# Altium integrated library Analog Devices Switches and Multiplexers Analog Switches.IntLib: 575 symbols (part 22 of 23)
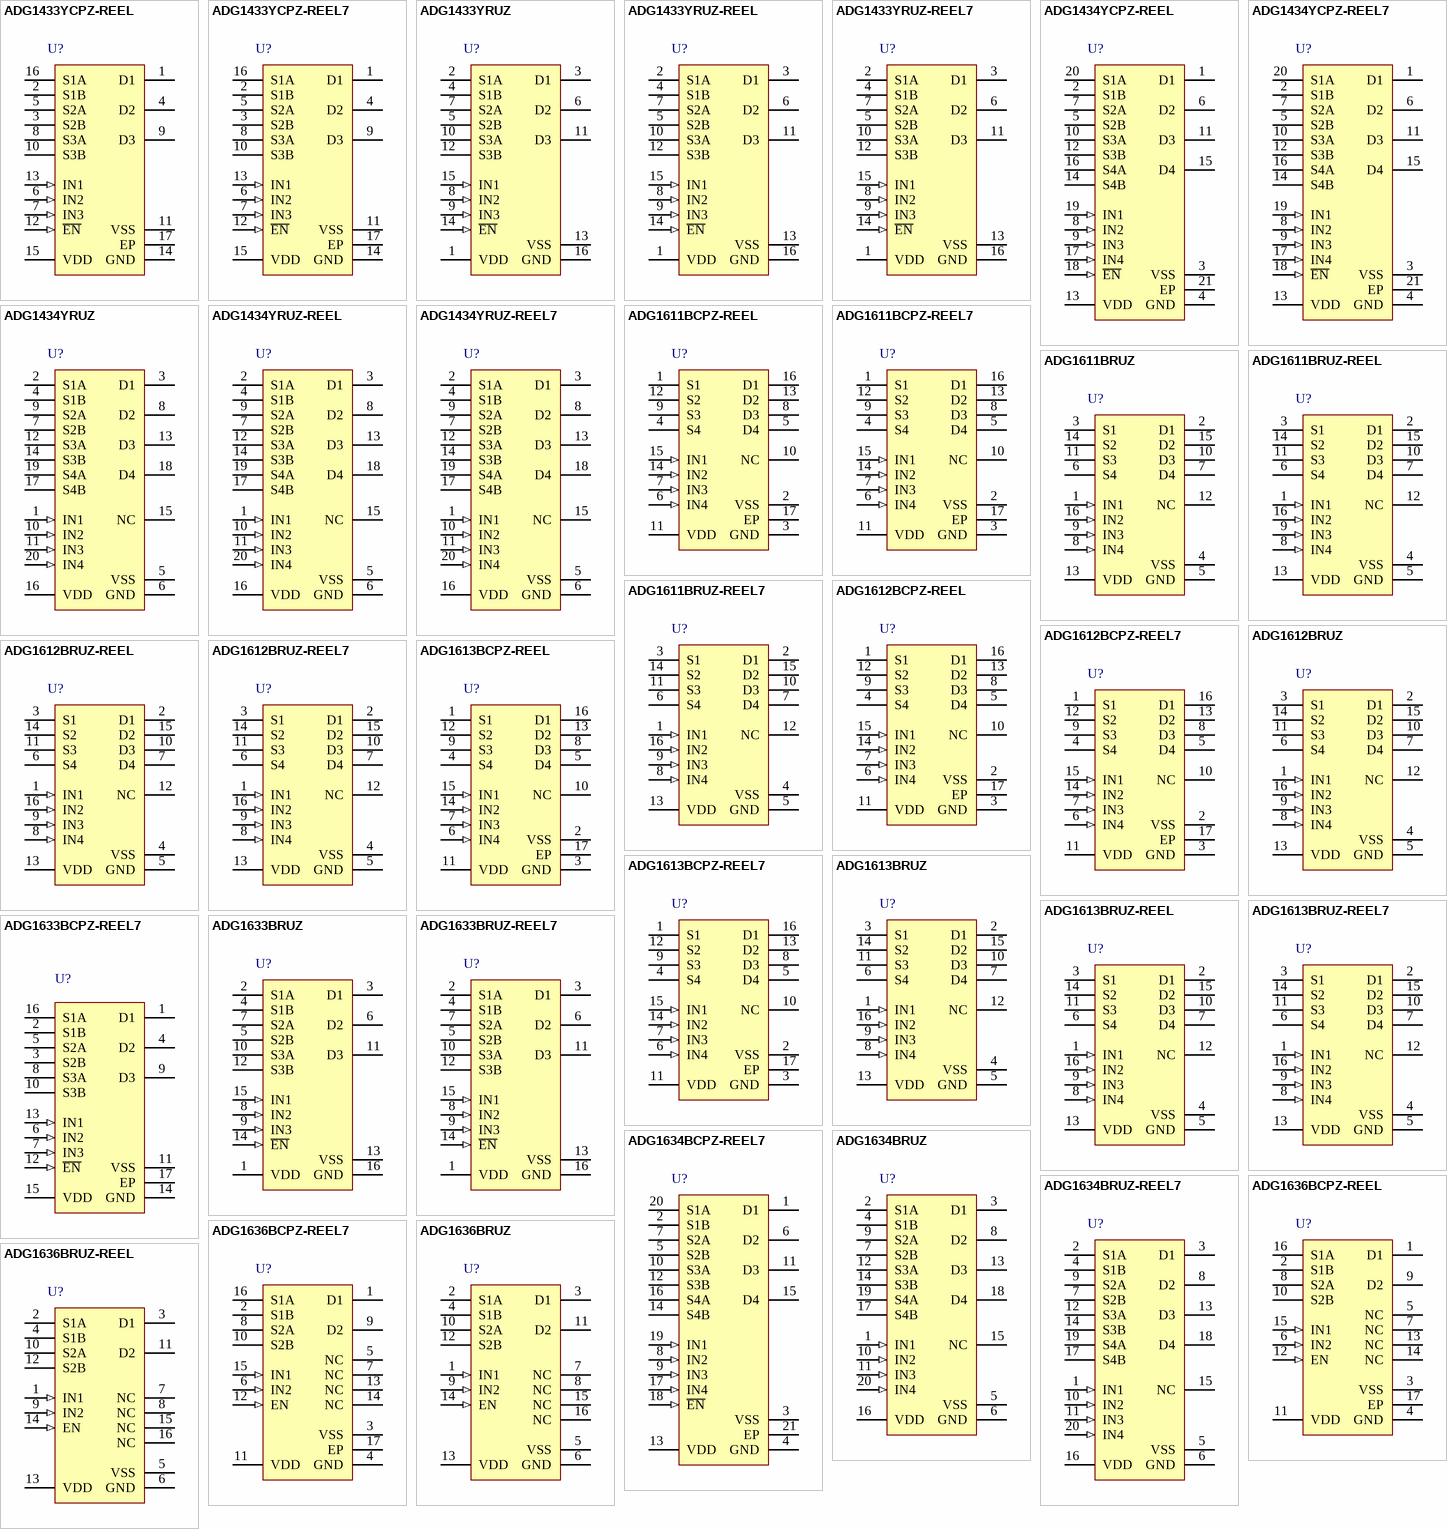
[diagram p36: symbols ADG1433YCPZ-REEL to ADG1636BRUZ-REEL]

## ADG1434YCPZ-REEL7
designator U?
4 Ohm Ron, Quad SPDT +/-15 V / +12 V / +/-5 V iCMOS Switch, 20-pin QFN (CP-20-4), Reel; Manufacturer: Analog Devices; PartNumber: ADG1434YCPZ-REEL7; Id, Is (ON): 50pA, 60pA, 40pA; Is OFF: 40pA, 40pA, 20pA; Power Dissipation: 6.6mW; Ron (ohms): 4; DatasheetVersion: Rev. C; PackageVersion: 012508-B; PackageReference: CP-20-4; PackageDescription: 20-Pin Lead Frame Chip Scale Package, Body 4 x 4 mm, Pitch 0.5 mm; Supplier 1: Digi-Key; Supplier Part Number 1: ADG1434YCPZ-REEL7TR-ND; Supplier 2: Digi-Key; Supplier Part Number 2: ADG1434YCPZ-REEL7CT-ND; Supplier 3: Digi-Key; Supplier Part Number 3: ADG1434YCPZ-REEL7DKR-ND; Supplier 4: Farnell; Supplier Part Number 4: 2074892; Supplier 5: Newark; Supplier Part Number 5: 77M9912; Supplier 6: Newark; Supplier Part Number 6: 67W3121; Supplier 7: Mouser; Supplier Part Number 7: 584-ADG1434YCPZ-R7; Configuration: SPDT; Packing: Reel; Mounting Technology: Surface Mount; Code_JEDEC: MO-220-VGGD-1; ComponentLink1Description: Manufacturer URL; ComponentLink1URL: http://www.analog.com/en/index.html; ComponentLink2Description: Datasheet; ComponentLink2URL: http://www.analog.com/static/imported-files/data_sheets/ADG1433_1434.pdf; ComponentLink3Description: Package Specification; ComponentLink3URL: http://www.analog.com/static/imported-files/packages/PKG_PDF/LFCSP(CP)/CP_20_4.pdf
footprint ADI-CP-20-4_N (QFN, 20-Leads, Body 4x4mm, Pitch 0.5mm, Thermal Pad 2.5x2.5mm, IPC Medium Density)
footprint ADI-CP-20-4_L (QFN, 20-Leads, Body 4x4mm, Pitch 0.5mm, Thermal Pad 2.5x2.5mm, IPC High Density)
footprint ADI-CP-20-4_M (QFN, 20-Leads, Body 4x4mm, Pitch 0.5mm, Thermal Pad 2.5x2.5mm, IPC Low Density)
pins: 1 D1 "Drain Terminal 1. Can be an input or an output.", 2 S1B "Source Terminal 1A. Can be an input or an output.", 3 VSS (power) "Most Negative Power Supply Potential. In single-supply applications, it can be connected to ground.", 4 GND (power) "Ground (0 V) Reference.", 5 S2B "Source Terminal 2B. Can be an input or an output.", 6 D2 "Drain Terminal 2. Can be an input or an output.", 7 S2A "Source Terminal 2A. Can be an input or an output.", 8 IN2 (in) "Logic Control Input 2.", 9 IN3 (in) "Logic Control Input 3.", 10 S3A "Source Terminal 3A. Can be an input or an output.", 11 D3 "Drain Terminal 3. Can be an input or an output.", 12 S3B "Source Terminal 3B. Can be an input or an output.", 13 VDD (power) "Most Positive Power Supply Potential.", 14 S4B "Source Terminal 4B. Can be an input or an output.", 15 D4 "Drain Terminal 4. Can be an input or an output.", 16 S4A "Source Terminal 4A. Can be an input or an output.", 17 IN4 (in) "Logic Control Input 4.", 18 ~{EN} (in) "Active Low Digital Input. When high, the device is disabled and all switches are off. When low, INx logic inputs determine the on switches.", 19 IN1 (in) "Logic Control Input 1.", 20 S1A "Source Terminal 1A. Can be an input or an output.", 21 EP (power) "The exposed pad is tied to the substrate, VSS."

## ADG1434YRUZ
designator U?
4 Ohm Ron, Quad SPDT +/-15 V / +12 V / +/-5 V iCMOS Switch, 20-pin SOP (RU-20), Tube; Manufacturer: Analog Devices; PartNumber: ADG1434YRUZ; Id, Is (ON): 50pA, 60pA, 40pA; Is OFF: 40pA, 40pA, 20pA; Power Dissipation: 6.6mW; Ron (ohms): 4; DatasheetVersion: Rev. C; PackageVersion: Jan-03; PackageReference: RU-20; PackageDescription: 20-Pin Thin Shrink Small Outline Package, Body 6.5 x 4.4 mm, Pitch 0.65 mm; Supplier 1: Digi-Key; Supplier Part Number 1: ADG1434YRUZ-ND; Supplier 2: Farnell; Supplier Part Number 2: 1438880; Supplier 3: Newark; Supplier Part Number 3: 28M3595; Supplier 4: Mouser; Supplier Part Number 4: 584-ADG1434YRUZ; Configuration: SPDT; Packing: Tube; Mounting Technology: Surface Mount; Code_JEDEC: MO-153AC; ComponentLink1Description: Manufacturer URL; ComponentLink1URL: http://www.analog.com/en/index.html; ComponentLink2Description: Datasheet; ComponentLink2URL: http://www.analog.com/static/imported-files/data_sheets/ADG1433_1434.pdf; ComponentLink3Description: Package Specification; ComponentLink3URL: http://www.analog.com/static/imported-files/packages/364515793657813558433715854054607941441RU20.pdf
footprint ADI-RU-20_N (SOP, 20-Leads, Body 6.5x4.4mm, Pitch 0.65mm, IPC Medium Density)
footprint ADI-RU-20_L (SOP, 20-Leads, Body 6.5x4.4mm, Pitch 0.65mm, IPC High Density)
footprint ADI-RU-20_M (SOP, 20-Leads, Body 6.5x4.4mm, Pitch 0.65mm, IPC Low Density)
pins: 1 IN1 (in) "Logic Control Input 1.", 2 S1A "Source Terminal 1A. Can be an input or an output.", 3 D1 "Drain Terminal 1. Can be an input or an output.", 4 S1B "Source Terminal 1B. Can be an input or an output.", 5 VSS (power) "Most Negative Power Supply Potential. In single-supply applications, it can be connected to ground.", 6 GND (power) "Ground (0 V) Reference.", 7 S2B "Source Terminal 2B. Can be an input or an output.", 8 D2 "Drain Terminal 2. Can be an input or an output.", 9 S2A "Source Terminal 2A. Can be an input or an output.", 10 IN2 (in) "Logic Control Input 2.", 11 IN3 (in) "Logic Control Input 3.", 12 S3A "Source Terminal 3A. Can be an input or an output.", 13 D3 "Drain Terminal 3. Can be an input or an output.", 14 S3B "Source Terminal 3B. Can be an input or an output.", 15 NC "No Connect.", 16 VDD (power) "Most Positive Power Supply Potential.", 17 S4B "Source Terminal 4B. Can be an input or an output.", 18 D4 "Drain Terminal 4. Can be an input or an output.", 19 S4A "Source Terminal 4A. Can be an input or an output.", 20 IN4 (in) "Logic Control Input 4."

## ADG1434YRUZ-REEL
designator U?
4 Ohm Ron, Quad SPDT +/-15 V / +12 V / +/-5 V iCMOS Switch, 20-pin SOP (RU-20), Reel; Manufacturer: Analog Devices; PartNumber: ADG1434YRUZ-REEL; Id, Is (ON): 50pA, 60pA, 40pA; Is OFF: 40pA, 40pA, 20pA; Power Dissipation: 6.6mW; Ron (ohms): 4; DatasheetVersion: Rev. C; PackageVersion: Jan-03; PackageReference: RU-20; PackageDescription: 20-Pin Thin Shrink Small Outline Package, Body 6.5 x 4.4 mm, Pitch 0.65 mm; Supplier 1: Digi-Key; Supplier Part Number 1: ADG1434YRUZ-REEL-ND; Supplier 2: Mouser; Supplier Part Number 2: 584-ADG1434YRUZ-R; Configuration: SPDT; Packing: Reel; Mounting Technology: Surface Mount; Code_JEDEC: MO-153AC; ComponentLink1Description: Manufacturer URL; ComponentLink1URL: http://www.analog.com/en/index.html; ComponentLink2Description: Datasheet; ComponentLink2URL: http://www.analog.com/static/imported-files/data_sheets/ADG1433_1434.pdf; ComponentLink3Description: Package Specification; ComponentLink3URL: http://www.analog.com/static/imported-files/packages/364515793657813558433715854054607941441RU20.pdf
footprint ADI-RU-20_N (SOP, 20-Leads, Body 6.5x4.4mm, Pitch 0.65mm, IPC Medium Density)
footprint ADI-RU-20_L (SOP, 20-Leads, Body 6.5x4.4mm, Pitch 0.65mm, IPC High Density)
footprint ADI-RU-20_M (SOP, 20-Leads, Body 6.5x4.4mm, Pitch 0.65mm, IPC Low Density)
pins: 1 IN1 (in) "Logic Control Input 1.", 2 S1A "Source Terminal 1A. Can be an input or an output.", 3 D1 "Drain Terminal 1. Can be an input or an output.", 4 S1B "Source Terminal 1B. Can be an input or an output.", 5 VSS (power) "Most Negative Power Supply Potential. In single-supply applications, it can be connected to ground.", 6 GND (power) "Ground (0 V) Reference.", 7 S2B "Source Terminal 2B. Can be an input or an output.", 8 D2 "Drain Terminal 2. Can be an input or an output.", 9 S2A "Source Terminal 2A. Can be an input or an output.", 10 IN2 (in) "Logic Control Input 2.", 11 IN3 (in) "Logic Control Input 3.", 12 S3A "Source Terminal 3A. Can be an input or an output.", 13 D3 "Drain Terminal 3. Can be an input or an output.", 14 S3B "Source Terminal 3B. Can be an input or an output.", 15 NC "No Connect.", 16 VDD (power) "Most Positive Power Supply Potential.", 17 S4B "Source Terminal 4B. Can be an input or an output.", 18 D4 "Drain Terminal 4. Can be an input or an output.", 19 S4A "Source Terminal 4A. Can be an input or an output.", 20 IN4 (in) "Logic Control Input 4."

## ADG1434YRUZ-REEL7
designator U?
4 Ohm Ron, Quad SPDT +/-15 V / +12 V / +/-5 V iCMOS Switch, 20-pin SOP (RU-20), Reel; Manufacturer: Analog Devices; PartNumber: ADG1434YRUZ-REEL7; Id, Is (ON): 50pA, 60pA, 40pA; Is OFF: 40pA, 40pA, 20pA; Power Dissipation: 6.6mW; Ron (ohms): 4; DatasheetVersion: Rev. C; PackageVersion: Jan-03; PackageReference: RU-20; PackageDescription: 20-Pin Thin Shrink Small Outline Package, Body 6.5 x 4.4 mm, Pitch 0.65 mm; Supplier 1: Digi-Key; Supplier Part Number 1: ADG1434YRUZ-REEL7TR-ND; Supplier 2: Digi-Key; Supplier Part Number 2: ADG1434YRUZ-REEL7CT-ND; Supplier 3: Digi-Key; Supplier Part Number 3: ADG1434YRUZ-REEL7DKR-ND; Supplier 4: Newark; Supplier Part Number 4: 28M3597; Supplier 5: Mouser; Supplier Part Number 5: 584-ADG1434YRUZ-R7; Configuration: SPDT; Packing: Reel; Mounting Technology: Surface Mount; Code_JEDEC: MO-153AC; ComponentLink1Description: Manufacturer URL; ComponentLink1URL: http://www.analog.com/en/index.html; ComponentLink2Description: Datasheet; ComponentLink2URL: http://www.analog.com/static/imported-files/data_sheets/ADG1433_1434.pdf; ComponentLink3Description: Package Specification; ComponentLink3URL: http://www.analog.com/static/imported-files/packages/364515793657813558433715854054607941441RU20.pdf
footprint ADI-RU-20_N (SOP, 20-Leads, Body 6.5x4.4mm, Pitch 0.65mm, IPC Medium Density)
footprint ADI-RU-20_L (SOP, 20-Leads, Body 6.5x4.4mm, Pitch 0.65mm, IPC High Density)
footprint ADI-RU-20_M (SOP, 20-Leads, Body 6.5x4.4mm, Pitch 0.65mm, IPC Low Density)
pins: 1 IN1 (in) "Logic Control Input 1.", 2 S1A "Source Terminal 1A. Can be an input or an output.", 3 D1 "Drain Terminal 1. Can be an input or an output.", 4 S1B "Source Terminal 1B. Can be an input or an output.", 5 VSS (power) "Most Negative Power Supply Potential. In single-supply applications, it can be connected to ground.", 6 GND (power) "Ground (0 V) Reference.", 7 S2B "Source Terminal 2B. Can be an input or an output.", 8 D2 "Drain Terminal 2. Can be an input or an output.", 9 S2A "Source Terminal 2A. Can be an input or an output.", 10 IN2 (in) "Logic Control Input 2.", 11 IN3 (in) "Logic Control Input 3.", 12 S3A "Source Terminal 3A. Can be an input or an output.", 13 D3 "Drain Terminal 3. Can be an input or an output.", 14 S3B "Source Terminal 3B. Can be an input or an output.", 15 NC "No Connect.", 16 VDD (power) "Most Positive Power Supply Potential.", 17 S4B "Source Terminal 4B. Can be an input or an output.", 18 D4 "Drain Terminal 4. Can be an input or an output.", 19 S4A "Source Terminal 4A. Can be an input or an output.", 20 IN4 (in) "Logic Control Input 4."

## ADG1611BCPZ-REEL
designator U?
1 Ohm Typical Ron, +/-5 V, +12 V, +5 V, and +3.3 V Quad SPST Switches, -40 to 125 degC, 16-pin QFN (CP-16-13), Reel; Manufacturer: Analog Devices; PartNumber: ADG1611BCPZ-REEL; # Sw Functions: 4; Id, Is (ON): 200pA, 200pA, 150pA, 100pA; Is OFF: 100pA, 100pA, 50pA, 20pA; Power Dissipation: 5.8mW; Ron (ohms): 1; DatasheetVersion: Rev. B; PackageVersion: 031006-A, 06/2006; PackageReference: CP-16-13; PackageDescription: 16-Pin Lead Frame Chip Scale Package, Body 4 x 4 mm, Pitch 0.65 mm; Supplier 1: Digi-Key; Supplier Part Number 1: ADG1611BCPZ-REEL-ND; Supplier 2: Mouser; Supplier Part Number 2: 584-ADG1611BCPZ-R; Configuration: SPST; Packing: Reel; Mounting Technology: Surface Mount; Code_JEDEC: MO-220-VGGC.; ComponentLink1Description: Manufacturer URL; ComponentLink1URL: http://www.analog.com/en/index.html; ComponentLink2Description: Datasheet; ComponentLink2URL: http://www.analog.com/static/imported-files/data_sheets/ADG1611_1612_1613.pdf; ComponentLink3Description: Package Specification; ComponentLink3URL: http://www.analog.com/static/imported-files/packages/PKG_PDF/LFCSP(CP)/CP-16/CP_16_13.pdf
footprint ADI-CP-16-13_N (QFN, 16-Leads, Body 4x4mm, Pitch 0.65mm, Thermal Pad 2.5x2.5mm, IPC Medium Density)
footprint ADI-CP-16-13_L (QFN, 16-Leads, Body 4x4mm, Pitch 0.65mm, Thermal Pad 2.5x2.5mm, IPC High Density)
footprint ADI-CP-16-13_M (QFN, 16-Leads, Body 4x4mm, Pitch 0.65mm, Thermal Pad 2.5x2.5mm, IPC Low Density)
pins: 1 S1 "Source Terminal. This pin can be an input or output.", 2 VSS (power) "Most Negative Power Supply Potential.", 3 GND (power) "Ground (0 V) Reference.", 4 S4 "Source Terminal. This pin can be an input or output.", 5 D4 "Drain Terminal. This pin can be an input or output.", 6 IN4 (in) "Logic Control Input.", 7 IN3 (in) "Logic Control Input.", 8 D3 "Drain Terminal. This pin can be an input or output", 9 S3 "Source Terminal. This pin can be an input or output.", 10 NC "No Connection.", 11 VDD (power) "Most Positive Power Supply Potential.", 12 S2 "Source Terminal. This pin can be an input or output.", 13 D2 "Drain Terminal. This pin can be an input or output.", 14 IN2 (in) "Logic Control Input.", 15 IN1 (in) "Logic Control Input.", 16 D1 "Drain Terminal. This pin can be an input or output.", 17 EP (power) "Exposed Pad. Tied to substrate, VSS."

## ADG1611BCPZ-REEL7
designator U?
1 Ohm Typical Ron, +/-5 V, +12 V, +5 V, and +3.3 V Quad SPST Switches, -40 to 125 degC, 16-pin QFN (CP-16-13), Reel; Manufacturer: Analog Devices; PartNumber: ADG1611BCPZ-REEL7; # Sw Functions: 4; Id, Is (ON): 200pA, 200pA, 150pA, 100pA; Is OFF: 100pA, 100pA, 50pA, 20pA; Power Dissipation: 5.8mW; Ron (ohms): 1; DatasheetVersion: Rev. B; PackageVersion: 031006-A, 06/2006; PackageReference: CP-16-13; PackageDescription: 16-Pin Lead Frame Chip Scale Package, Body 4 x 4 mm, Pitch 0.65 mm; Supplier 1: Digi-Key; Supplier Part Number 1: ADG1611BCPZ-REEL7TR-ND; Supplier 2: Digi-Key; Supplier Part Number 2: ADG1611BCPZ-REEL7CT-ND; Supplier 3: Digi-Key; Supplier Part Number 3: ADG1611BCPZ-REEL7DKR-ND; Supplier 4: Newark; Supplier Part Number 4: 71P7806; Supplier 5: Mouser; Supplier Part Number 5: 584-ADG1611BCPZ-R7; Configuration: SPST; Packing: Reel; Mounting Technology: Surface Mount; Code_JEDEC: MO-220-VGGC.; ComponentLink1Description: Manufacturer URL; ComponentLink1URL: http://www.analog.com/en/index.html; ComponentLink2Description: Datasheet; ComponentLink2URL: http://www.analog.com/static/imported-files/data_sheets/ADG1611_1612_1613.pdf; ComponentLink3Description: Package Specification; ComponentLink3URL: http://www.analog.com/static/imported-files/packages/PKG_PDF/LFCSP(CP)/CP-16/CP_16_13.pdf
footprint ADI-CP-16-13_N (QFN, 16-Leads, Body 4x4mm, Pitch 0.65mm, Thermal Pad 2.5x2.5mm, IPC Medium Density)
footprint ADI-CP-16-13_L (QFN, 16-Leads, Body 4x4mm, Pitch 0.65mm, Thermal Pad 2.5x2.5mm, IPC High Density)
footprint ADI-CP-16-13_M (QFN, 16-Leads, Body 4x4mm, Pitch 0.65mm, Thermal Pad 2.5x2.5mm, IPC Low Density)
pins: 1 S1 "Source Terminal. This pin can be an input or output.", 2 VSS (power) "Most Negative Power Supply Potential.", 3 GND (power) "Ground (0 V) Reference.", 4 S4 "Source Terminal. This pin can be an input or output.", 5 D4 "Drain Terminal. This pin can be an input or output.", 6 IN4 (in) "Logic Control Input.", 7 IN3 (in) "Logic Control Input.", 8 D3 "Drain Terminal. This pin can be an input or output", 9 S3 "Source Terminal. This pin can be an input or output.", 10 NC "No Connection.", 11 VDD (power) "Most Positive Power Supply Potential.", 12 S2 "Source Terminal. This pin can be an input or output.", 13 D2 "Drain Terminal. This pin can be an input or output.", 14 IN2 (in) "Logic Control Input.", 15 IN1 (in) "Logic Control Input.", 16 D1 "Drain Terminal. This pin can be an input or output.", 17 EP (power) "Exposed Pad. Tied to substrate, VSS."

## ADG1611BRUZ
designator U?
1 Ohm Typical Ron, +/-5 V, +12 V, +5 V, and +3.3 V Quad SPST Switches, -40 to 125 degC, 16-pin SOP (RU-16), Tube; Manufacturer: Analog Devices; PartNumber: ADG1611BRUZ; # Sw Functions: 4; Id, Is (ON): 200pA, 200pA, 150pA, 100pA; Is OFF: 100pA, 100pA, 50pA, 20pA; Power Dissipation: 5.8mW; Ron (ohms): 1; DatasheetVersion: Rev. B; PackageVersion: Nov-02; PackageReference: RU-16; PackageDescription: 16-Pin Thin Shrink Small Outline Package, Body 5 x 4.4 mm, Pitch 0.65 mm; Supplier 1: Digi-Key; Supplier Part Number 1: ADG1611BRUZ-ND; Supplier 2: Farnell; Supplier Part Number 2: 2102526; Supplier 3: Farnell; Supplier Part Number 3: 1702365; Supplier 4: Newark; Supplier Part Number 4: 71P7807; Supplier 5: Mouser; Supplier Part Number 5: 584-ADG1611BRUZ; Configuration: SPST; Packing: Tube; Mounting Technology: Surface Mount; Code_JEDEC: MO-153AB; ComponentLink1Description: Manufacturer URL; ComponentLink1URL: http://www.analog.com/en/index.html; ComponentLink2Description: Datasheet; ComponentLink2URL: http://www.analog.com/static/imported-files/data_sheets/ADG1611_1612_1613.pdf; ComponentLink3Description: Package Specification; ComponentLink3URL: http:/www.analog.com/static/imported-files/packages/36244347913743854010197452789RU16.pdf
footprint ADI-RU-16_N (SOP, 16-Leads, Body 5x4.4mm, Pitch 0.65mm, IPC Medium Density)
footprint ADI-RU-16_L (SOP, 16-Leads, Body 5x4.4mm, Pitch 0.65mm, IPC High Density)
footprint ADI-RU-16_M (SOP, 16-Leads, Body 5x4.4mm, Pitch 0.65mm, IPC Low Density)
pins: 1 IN1 (in) "Logic Control Input.", 2 D1 "Drain Terminal. This pin can be an input or output.", 3 S1 "Source Terminal. This pin can be an input or output.", 4 VSS (power) "Most Negative Power Supply Potential.", 5 GND (power) "Ground (0 V) Reference.", 6 S4 "Source Terminal. This pin can be an input or output.", 7 D4 "Drain Terminal. This pin can be an input or output.", 8 IN4 (in) "Logic Control Input.", 9 IN3 (in) "Logic Control Input.", 10 D3 "Drain Terminal. This pin can be an input or output.", 11 S3 "Source Terminal. This pin can be an input or output.", 12 NC "No Connection.", 13 VDD (power) "Most Positive Power Supply Potential.", 14 S2 "Source Terminal. This pin can be an input or output.", 15 D2 "Drain Terminal. This pin can be an input or output.", 16 IN2 (in) "Logic Control Input."

## ADG1611BRUZ-REEL
designator U?
1 Ohm Typical Ron, +/-5 V, +12 V, +5 V, and +3.3 V Quad SPST Switches, -40 to 125 degC, 16-pin SOP (RU-16), Reel; Manufacturer: Analog Devices; PartNumber: ADG1611BRUZ-REEL; # Sw Functions: 4; Id, Is (ON): 200pA, 200pA, 150pA, 100pA; Is OFF: 100pA, 100pA, 50pA, 20pA; Power Dissipation: 5.8mW; Ron (ohms): 1; DatasheetVersion: Rev. B; PackageVersion: Nov-02; PackageReference: RU-16; PackageDescription: 16-Pin Thin Shrink Small Outline Package, Body 5 x 4.4 mm, Pitch 0.65 mm; Supplier 1: Digi-Key; Supplier Part Number 1: ADG1611BRUZ-REEL-ND; Supplier 2: Mouser; Supplier Part Number 2: 584-ADG1611BRUZ-R; Configuration: SPST; Packing: Reel; Mounting Technology: Surface Mount; Code_JEDEC: MO-153AB; ComponentLink1Description: Manufacturer URL; ComponentLink1URL: http://www.analog.com/en/index.html; ComponentLink2Description: Datasheet; ComponentLink2URL: http://www.analog.com/static/imported-files/data_sheets/ADG1611_1612_1613.pdf; ComponentLink3Description: Package Specification; ComponentLink3URL: http:/www.analog.com/static/imported-files/packages/36244347913743854010197452789RU16.pdf
footprint ADI-RU-16_N (SOP, 16-Leads, Body 5x4.4mm, Pitch 0.65mm, IPC Medium Density)
footprint ADI-RU-16_L (SOP, 16-Leads, Body 5x4.4mm, Pitch 0.65mm, IPC High Density)
footprint ADI-RU-16_M (SOP, 16-Leads, Body 5x4.4mm, Pitch 0.65mm, IPC Low Density)
pins: 1 IN1 (in) "Logic Control Input.", 2 D1 "Drain Terminal. This pin can be an input or output.", 3 S1 "Source Terminal. This pin can be an input or output.", 4 VSS (power) "Most Negative Power Supply Potential.", 5 GND (power) "Ground (0 V) Reference.", 6 S4 "Source Terminal. This pin can be an input or output.", 7 D4 "Drain Terminal. This pin can be an input or output.", 8 IN4 (in) "Logic Control Input.", 9 IN3 (in) "Logic Control Input.", 10 D3 "Drain Terminal. This pin can be an input or output.", 11 S3 "Source Terminal. This pin can be an input or output.", 12 NC "No Connection.", 13 VDD (power) "Most Positive Power Supply Potential.", 14 S2 "Source Terminal. This pin can be an input or output.", 15 D2 "Drain Terminal. This pin can be an input or output.", 16 IN2 (in) "Logic Control Input."

## ADG1611BRUZ-REEL7
designator U?
1 Ohm Typical Ron, +/-5 V, +12 V, +5 V, and +3.3 V Quad SPST Switches, -40 to 125 degC, 16-pin SOP (RU-16), Reel; Manufacturer: Analog Devices; PartNumber: ADG1611BRUZ-REEL7; # Sw Functions: 4; Id, Is (ON): 200pA, 200pA, 150pA, 100pA; Is OFF: 100pA, 100pA, 50pA, 20pA; Power Dissipation: 5.8mW; Ron (ohms): 1; DatasheetVersion: Rev. B; PackageVersion: Nov-02; PackageReference: RU-16; PackageDescription: 16-Pin Thin Shrink Small Outline Package, Body 5 x 4.4 mm, Pitch 0.65 mm; Supplier 1: Digi-Key; Supplier Part Number 1: ADG1611BRUZ-REEL7-ND; Supplier 2: Newark; Supplier Part Number 2: 71P7809; Supplier 3: Mouser; Supplier Part Number 3: 584-ADG1611BRUZ-R7; Configuration: SPST; Packing: Reel; Mounting Technology: Surface Mount; Code_JEDEC: MO-153AB; ComponentLink1Description: Manufacturer URL; ComponentLink1URL: http://www.analog.com/en/index.html; ComponentLink2Description: Datasheet; ComponentLink2URL: http://www.analog.com/static/imported-files/data_sheets/ADG1611_1612_1613.pdf; ComponentLink3Description: Package Specification; ComponentLink3URL: http:/www.analog.com/static/imported-files/packages/36244347913743854010197452789RU16.pdf
footprint ADI-RU-16_N (SOP, 16-Leads, Body 5x4.4mm, Pitch 0.65mm, IPC Medium Density)
footprint ADI-RU-16_L (SOP, 16-Leads, Body 5x4.4mm, Pitch 0.65mm, IPC High Density)
footprint ADI-RU-16_M (SOP, 16-Leads, Body 5x4.4mm, Pitch 0.65mm, IPC Low Density)
pins: 1 IN1 (in) "Logic Control Input.", 2 D1 "Drain Terminal. This pin can be an input or output.", 3 S1 "Source Terminal. This pin can be an input or output.", 4 VSS (power) "Most Negative Power Supply Potential.", 5 GND (power) "Ground (0 V) Reference.", 6 S4 "Source Terminal. This pin can be an input or output.", 7 D4 "Drain Terminal. This pin can be an input or output.", 8 IN4 (in) "Logic Control Input.", 9 IN3 (in) "Logic Control Input.", 10 D3 "Drain Terminal. This pin can be an input or output.", 11 S3 "Source Terminal. This pin can be an input or output.", 12 NC "No Connection.", 13 VDD (power) "Most Positive Power Supply Potential.", 14 S2 "Source Terminal. This pin can be an input or output.", 15 D2 "Drain Terminal. This pin can be an input or output.", 16 IN2 (in) "Logic Control Input."

## ADG1612BCPZ-REEL
designator U?
1 Ohm Typical Ron, +/-5 V, +12 V, +5 V, and +3.3 V Quad SPST Switches, -40 to 125 degC, 16-pin QFN (CP-16-13), Reel; Manufacturer: Analog Devices; PartNumber: ADG1612BCPZ-REEL; # Sw Functions: 4; Id, Is (ON): 200pA, 200pA, 150pA, 100pA; Is OFF: 100pA, 100pA, 50pA, 20pA; Power Dissipation: 5.8mW; Ron (ohms): 1; DatasheetVersion: Rev. B; PackageVersion: 031006-A, 06/2006; PackageReference: CP-16-13; PackageDescription: 16-Pin Lead Frame Chip Scale Package, Body 4 x 4 mm, Pitch 0.65 mm; Supplier 1: Digi-Key; Supplier Part Number 1: ADG1612BCPZ-REEL-ND; Supplier 2: Mouser; Supplier Part Number 2: 584-ADG1612BCPZ-R; Configuration: SPST; Packing: Reel; Mounting Technology: Surface Mount; Code_JEDEC: MO-220-VGGC.; ComponentLink1Description: Manufacturer URL; ComponentLink1URL: http://www.analog.com/en/index.html; ComponentLink2Description: Datasheet; ComponentLink2URL: http://www.analog.com/static/imported-files/data_sheets/ADG1611_1612_1613.pdf; ComponentLink3Description: Package Specification; ComponentLink3URL: http://www.analog.com/static/imported-files/packages/PKG_PDF/LFCSP(CP)/CP-16/CP_16_13.pdf
footprint ADI-CP-16-13_N (QFN, 16-Leads, Body 4x4mm, Pitch 0.65mm, Thermal Pad 2.5x2.5mm, IPC Medium Density)
footprint ADI-CP-16-13_L (QFN, 16-Leads, Body 4x4mm, Pitch 0.65mm, Thermal Pad 2.5x2.5mm, IPC High Density)
footprint ADI-CP-16-13_M (QFN, 16-Leads, Body 4x4mm, Pitch 0.65mm, Thermal Pad 2.5x2.5mm, IPC Low Density)
pins: 1 S1 "Source Terminal. This pin can be an input or output.", 2 VSS (power) "Most Negative Power Supply Potential.", 3 GND (power) "Ground (0 V) Reference.", 4 S4 "Source Terminal. This pin can be an input or output.", 5 D4 "Drain Terminal. This pin can be an input or output.", 6 IN4 (in) "Logic Control Input.", 7 IN3 (in) "Logic Control Input.", 8 D3 "Drain Terminal. This pin can be an input or output.", 9 S3 "Source Terminal. This pin can be an input or output.", 10 NC "No Connection.", 11 VDD (power) "Most Positive Power Supply Potential.", 12 S2 "Source Terminal. This pin can be an input or output.", 13 D2 "Drain Terminal. This pin can be an input or output.", 14 IN2 (in) "Logic Control Input.", 15 IN1 (in) "Logic Control Input.", 16 D1 "Drain Terminal. This pin can be an input or output.", 17 EP (power) "Exposed Pad. Tied to substrate, VSS."

## ADG1612BCPZ-REEL7
designator U?
1 Ohm Typical Ron, +/-5 V, +12 V, +5 V, and +3.3 V Quad SPST Switches, -40 to 125 degC, 16-pin QFN (CP-16-13), Reel; Manufacturer: Analog Devices; PartNumber: ADG1612BCPZ-REEL7; # Sw Functions: 4; Id, Is (ON): 200pA, 200pA, 150pA, 100pA; Is OFF: 100pA, 100pA, 50pA, 20pA; Power Dissipation: 5.8mW; Ron (ohms): 1; DatasheetVersion: Rev. B; PackageVersion: 031006-A, 06/2006; PackageReference: CP-16-13; PackageDescription: 16-Pin Lead Frame Chip Scale Package, Body 4 x 4 mm, Pitch 0.65 mm; Supplier 1: Digi-Key; Supplier Part Number 1: ADG1612BCPZ-REEL7TR-ND; Supplier 2: Digi-Key; Supplier Part Number 2: ADG1612BCPZ-REEL7CT-ND; Supplier 3: Digi-Key; Supplier Part Number 3: ADG1612BCPZ-REEL7DKR-ND; Supplier 4: Farnell; Supplier Part Number 4: 2312942; Supplier 5: Newark; Supplier Part Number 5: 71P7811; Supplier 6: Newark; Supplier Part Number 6: 67W3124; Supplier 7: Mouser; Supplier Part Number 7: 584-ADG1612BCPZ-R7; Configuration: SPST; Packing: Reel; Mounting Technology: Surface Mount; Code_JEDEC: MO-220-VGGC.; ComponentLink1Description: Manufacturer URL; ComponentLink1URL: http://www.analog.com/en/index.html; ComponentLink2Description: Datasheet; ComponentLink2URL: http://www.analog.com/static/imported-files/data_sheets/ADG1611_1612_1613.pdf; ComponentLink3Description: Package Specification; ComponentLink3URL: http://www.analog.com/static/imported-files/packages/PKG_PDF/LFCSP(CP)/CP-16/CP_16_13.pdf
footprint ADI-CP-16-13_N (QFN, 16-Leads, Body 4x4mm, Pitch 0.65mm, Thermal Pad 2.5x2.5mm, IPC Medium Density)
footprint ADI-CP-16-13_L (QFN, 16-Leads, Body 4x4mm, Pitch 0.65mm, Thermal Pad 2.5x2.5mm, IPC High Density)
footprint ADI-CP-16-13_M (QFN, 16-Leads, Body 4x4mm, Pitch 0.65mm, Thermal Pad 2.5x2.5mm, IPC Low Density)
pins: 1 S1 "Source Terminal. This pin can be an input or output.", 2 VSS (power) "Most Negative Power Supply Potential.", 3 GND (power) "Ground (0 V) Reference.", 4 S4 "Source Terminal. This pin can be an input or output.", 5 D4 "Drain Terminal. This pin can be an input or output.", 6 IN4 (in) "Logic Control Input.", 7 IN3 (in) "Logic Control Input.", 8 D3 "Drain Terminal. This pin can be an input or output.", 9 S3 "Source Terminal. This pin can be an input or output.", 10 NC "No Connection.", 11 VDD (power) "Most Positive Power Supply Potential.", 12 S2 "Source Terminal. This pin can be an input or output.", 13 D2 "Drain Terminal. This pin can be an input or output.", 14 IN2 (in) "Logic Control Input.", 15 IN1 (in) "Logic Control Input.", 16 D1 "Drain Terminal. This pin can be an input or output.", 17 EP (power) "Exposed Pad. Tied to substrate, VSS."

## ADG1612BRUZ
designator U?
1 Ohm Typical Ron, +/-5 V, +12 V, +5 V, and +3.3 V Quad SPST Switches, -40 to 125 degC, 16-pin SOP (RU-16), Tube; Manufacturer: Analog Devices; PartNumber: ADG1612BRUZ; # Sw Functions: 4; Id, Is (ON): 200pA, 200pA, 150pA, 100pA; Is OFF: 100pA, 100pA, 50pA, 20pA; Power Dissipation: 5.8mW; Ron (ohms): 1; DatasheetVersion: Rev. B; PackageVersion: Nov-02; PackageReference: RU-16; PackageDescription: 16-Pin Thin Shrink Small Outline Package, Body 5 x 4.4 mm, Pitch 0.65 mm; Supplier 1: Digi-Key; Supplier Part Number 1: ADG1612BRUZ-ND; Supplier 2: Farnell; Supplier Part Number 2: 2074893; Supplier 3: Newark; Supplier Part Number 3: 71P7812; Supplier 4: Mouser; Supplier Part Number 4: 584-ADG1612BRUZ; Configuration: SPST; Packing: Tube; Mounting Technology: Surface Mount; Code_JEDEC: MO-153AB; ComponentLink1Description: Manufacturer URL; ComponentLink1URL: http://www.analog.com/en/index.html; ComponentLink2Description: Datasheet; ComponentLink2URL: http://www.analog.com/static/imported-files/data_sheets/ADG1611_1612_1613.pdf; ComponentLink3Description: Package Specification; ComponentLink3URL: http:/www.analog.com/static/imported-files/packages/36244347913743854010197452789RU16.pdf
footprint ADI-RU-16_N (SOP, 16-Leads, Body 5x4.4mm, Pitch 0.65mm, IPC Medium Density)
footprint ADI-RU-16_L (SOP, 16-Leads, Body 5x4.4mm, Pitch 0.65mm, IPC High Density)
footprint ADI-RU-16_M (SOP, 16-Leads, Body 5x4.4mm, Pitch 0.65mm, IPC Low Density)
pins: 1 IN1 (in) "Logic Control Input.", 2 D1 "Drain Terminal. This pin can be an input or output.", 3 S1 "Source Terminal. This pin can be an input or output.", 4 VSS (power) "Most Negative Power Supply Potential.", 5 GND (power) "Ground (0 V) Reference.", 6 S4 "Source Terminal. This pin can be an input or output.", 7 D4 "Drain Terminal. This pin can be an input or output.", 8 IN4 (in) "Logic Control Input.", 9 IN3 (in) "Logic Control Input.", 10 D3 "Drain Terminal. This pin can be an input or output.", 11 S3 "Source Terminal. This pin can be an input or output.", 12 NC "No Connection.", 13 VDD (power) "Most Positive Power Supply Potential.", 14 S2 "Source Terminal. This pin can be an input or output.", 15 D2 "Drain Terminal. This pin can be an input or output.", 16 IN2 (in) "Logic Control Input."

## ADG1612BRUZ-REEL
designator U?
1 Ohm Typical Ron, +/-5 V, +12 V, +5 V, and +3.3 V Quad SPST Switches, -40 to 125 degC, 16-pin SOP (RU-16), Reel; Manufacturer: Analog Devices; PartNumber: ADG1612BRUZ-REEL; # Sw Functions: 4; Id, Is (ON): 200pA, 200pA, 150pA, 100pA; Is OFF: 100pA, 100pA, 50pA, 20pA; Power Dissipation: 5.8mW; Ron (ohms): 1; DatasheetVersion: Rev. B; PackageVersion: Nov-02; PackageReference: RU-16; PackageDescription: 16-Pin Thin Shrink Small Outline Package, Body 5 x 4.4 mm, Pitch 0.65 mm; Supplier 1: Digi-Key; Supplier Part Number 1: ADG1612BRUZ-REEL-ND; Supplier 2: Mouser; Supplier Part Number 2: 584-ADG1612BRUZ-R; Configuration: SPST; Packing: Reel; Mounting Technology: Surface Mount; Code_JEDEC: MO-153AB; ComponentLink1Description: Manufacturer URL; ComponentLink1URL: http://www.analog.com/en/index.html; ComponentLink2Description: Datasheet; ComponentLink2URL: http://www.analog.com/static/imported-files/data_sheets/ADG1611_1612_1613.pdf; ComponentLink3Description: Package Specification; ComponentLink3URL: http:/www.analog.com/static/imported-files/packages/36244347913743854010197452789RU16.pdf
footprint ADI-RU-16_N (SOP, 16-Leads, Body 5x4.4mm, Pitch 0.65mm, IPC Medium Density)
footprint ADI-RU-16_L (SOP, 16-Leads, Body 5x4.4mm, Pitch 0.65mm, IPC High Density)
footprint ADI-RU-16_M (SOP, 16-Leads, Body 5x4.4mm, Pitch 0.65mm, IPC Low Density)
pins: 1 IN1 (in) "Logic Control Input.", 2 D1 "Drain Terminal. This pin can be an input or output.", 3 S1 "Source Terminal. This pin can be an input or output.", 4 VSS (power) "Most Negative Power Supply Potential.", 5 GND (power) "Ground (0 V) Reference.", 6 S4 "Source Terminal. This pin can be an input or output.", 7 D4 "Drain Terminal. This pin can be an input or output.", 8 IN4 (in) "Logic Control Input.", 9 IN3 (in) "Logic Control Input.", 10 D3 "Drain Terminal. This pin can be an input or output.", 11 S3 "Source Terminal. This pin can be an input or output.", 12 NC "No Connection.", 13 VDD (power) "Most Positive Power Supply Potential.", 14 S2 "Source Terminal. This pin can be an input or output.", 15 D2 "Drain Terminal. This pin can be an input or output.", 16 IN2 (in) "Logic Control Input."

## ADG1612BRUZ-REEL7
designator U?
1 Ohm Typical Ron, +/-5 V, +12 V, +5 V, and +3.3 V Quad SPST Switches, -40 to 125 degC, 16-pin SOP (RU-16), Reel; Manufacturer: Analog Devices; PartNumber: ADG1612BRUZ-REEL7; # Sw Functions: 4; Id, Is (ON): 200pA, 200pA, 150pA, 100pA; Is OFF: 100pA, 100pA, 50pA, 20pA; Power Dissipation: 5.8mW; Ron (ohms): 1; DatasheetVersion: Rev. B; PackageVersion: Nov-02; PackageReference: RU-16; PackageDescription: 16-Pin Thin Shrink Small Outline Package, Body 5 x 4.4 mm, Pitch 0.65 mm; Supplier 1: Digi-Key; Supplier Part Number 1: ADG1612BRUZ-REEL7-ND; Supplier 2: Mouser; Supplier Part Number 2: 584-ADG1612BRUZ-R7; Configuration: SPST; Packing: Reel; Mounting Technology: Surface Mount; Code_JEDEC: MO-153AB; ComponentLink1Description: Manufacturer URL; ComponentLink1URL: http://www.analog.com/en/index.html; ComponentLink2Description: Datasheet; ComponentLink2URL: http://www.analog.com/static/imported-files/data_sheets/ADG1611_1612_1613.pdf; ComponentLink3Description: Package Specification; ComponentLink3URL: http:/www.analog.com/static/imported-files/packages/36244347913743854010197452789RU16.pdf
footprint ADI-RU-16_N (SOP, 16-Leads, Body 5x4.4mm, Pitch 0.65mm, IPC Medium Density)
footprint ADI-RU-16_L (SOP, 16-Leads, Body 5x4.4mm, Pitch 0.65mm, IPC High Density)
footprint ADI-RU-16_M (SOP, 16-Leads, Body 5x4.4mm, Pitch 0.65mm, IPC Low Density)
pins: 1 IN1 (in) "Logic Control Input.", 2 D1 "Drain Terminal. This pin can be an input or output.", 3 S1 "Source Terminal. This pin can be an input or output.", 4 VSS (power) "Most Negative Power Supply Potential.", 5 GND (power) "Ground (0 V) Reference.", 6 S4 "Source Terminal. This pin can be an input or output.", 7 D4 "Drain Terminal. This pin can be an input or output.", 8 IN4 (in) "Logic Control Input.", 9 IN3 (in) "Logic Control Input.", 10 D3 "Drain Terminal. This pin can be an input or output.", 11 S3 "Source Terminal. This pin can be an input or output.", 12 NC "No Connection.", 13 VDD (power) "Most Positive Power Supply Potential.", 14 S2 "Source Terminal. This pin can be an input or output.", 15 D2 "Drain Terminal. This pin can be an input or output.", 16 IN2 (in) "Logic Control Input."

## ADG1613BCPZ-REEL
designator U?
1 Ohm Typical Ron, +/-5 V, +12 V, +5 V, and +3.3 V Quad SPST Switches, -40 to 125 degC, 16-pin QFN (CP-16-13), Reel; Manufacturer: Analog Devices; PartNumber: ADG1613BCPZ-REEL; # Sw Functions: 4; Id, Is (ON): 200pA, 200pA, 150pA, 100pA; Is OFF: 100pA, 100pA, 50pA, 20pA; Power Dissipation: 5.8mW; Ron (ohms): 1; DatasheetVersion: Rev. B; PackageVersion: 031006-A, 06/2006; PackageReference: CP-16-13; PackageDescription: 16-Pin Lead Frame Chip Scale Package, Body 4 x 4 mm, Pitch 0.65 mm; Supplier 1: Digi-Key; Supplier Part Number 1: ADG1613BCPZ-REEL-ND; Supplier 2: Mouser; Supplier Part Number 2: 584-ADG1613BCPZ-R; Configuration: SPST; Packing: Reel; Mounting Technology: Surface Mount; Code_JEDEC: MO-220-VGGC.; ComponentLink1Description: Manufacturer URL; ComponentLink1URL: http://www.analog.com/en/index.html; ComponentLink2Description: Datasheet; ComponentLink2URL: http://www.analog.com/static/imported-files/data_sheets/ADG1611_1612_1613.pdf; ComponentLink3Description: Package Specification; ComponentLink3URL: http://www.analog.com/static/imported-files/packages/PKG_PDF/LFCSP(CP)/CP-16/CP_16_13.pdf
footprint ADI-CP-16-13_N (QFN, 16-Leads, Body 4x4mm, Pitch 0.65mm, Thermal Pad 2.5x2.5mm, IPC Medium Density)
footprint ADI-CP-16-13_L (QFN, 16-Leads, Body 4x4mm, Pitch 0.65mm, Thermal Pad 2.5x2.5mm, IPC High Density)
footprint ADI-CP-16-13_M (QFN, 16-Leads, Body 4x4mm, Pitch 0.65mm, Thermal Pad 2.5x2.5mm, IPC Low Density)
pins: 1 S1 "Source Terminal. This pin can be an input or output.", 2 VSS (power) "Most Negative Power Supply Potential.", 3 GND (power) "Ground (0 V) Reference.", 4 S4 "Source Terminal. This pin can be an input or output.", 5 D4 "Drain Terminal. This pin can be an input or output.", 6 IN4 (in) "Logic Control Input.", 7 IN3 (in) "Logic Control Input.", 8 D3 "Drain Terminal. This pin can be an input or output.", 9 S3 "Source Terminal. This pin can be an input or output.", 10 NC "No Connection.", 11 VDD (power) "Most Positive Power Supply Potential.", 12 S2 "Source Terminal. This pin can be an input or output.", 13 D2 "Drain Terminal. This pin can be an input or output.", 14 IN2 (in) "Logic Control Input.", 15 IN1 (in) "Logic Control Input.", 16 D1 "Drain Terminal. This pin can be an input or output.", 17 EP (power) "Exposed Pad. Tied to substrate, VSS."

## ADG1613BCPZ-REEL7
designator U?
1 Ohm Typical Ron, +/-5 V, +12 V, +5 V, and +3.3 V Quad SPST Switches, -40 to 125 degC, 16-pin QFN (CP-16-13), Reel; Manufacturer: Analog Devices; PartNumber: ADG1613BCPZ-REEL7; # Sw Functions: 4; Id, Is (ON): 200pA, 200pA, 150pA, 100pA; Is OFF: 100pA, 100pA, 50pA, 20pA; Power Dissipation: 5.8mW; Ron (ohms): 1; DatasheetVersion: Rev. B; PackageVersion: 031006-A, 06/2006; PackageReference: CP-16-13; PackageDescription: 16-Pin Lead Frame Chip Scale Package, Body 4 x 4 mm, Pitch 0.65 mm; Supplier 1: Digi-Key; Supplier Part Number 1: ADG1613BCPZ-REEL7TR-ND; Supplier 2: Digi-Key; Supplier Part Number 2: ADG1613BCPZ-REEL7CT-ND; Supplier 3: Digi-Key; Supplier Part Number 3: ADG1613BCPZ-REEL7DKR-ND; Supplier 4: Newark; Supplier Part Number 4: 71P7816; Supplier 5: Mouser; Supplier Part Number 5: 584-ADG1613BCPZ-R7; Configuration: SPST; Packing: Reel; Mounting Technology: Surface Mount; Code_JEDEC: MO-220-VGGC.; ComponentLink1Description: Manufacturer URL; ComponentLink1URL: http://www.analog.com/en/index.html; ComponentLink2Description: Datasheet; ComponentLink2URL: http://www.analog.com/static/imported-files/data_sheets/ADG1611_1612_1613.pdf; ComponentLink3Description: Package Specification; ComponentLink3URL: http://www.analog.com/static/imported-files/packages/PKG_PDF/LFCSP(CP)/CP-16/CP_16_13.pdf
footprint ADI-CP-16-13_N (QFN, 16-Leads, Body 4x4mm, Pitch 0.65mm, Thermal Pad 2.5x2.5mm, IPC Medium Density)
footprint ADI-CP-16-13_L (QFN, 16-Leads, Body 4x4mm, Pitch 0.65mm, Thermal Pad 2.5x2.5mm, IPC High Density)
footprint ADI-CP-16-13_M (QFN, 16-Leads, Body 4x4mm, Pitch 0.65mm, Thermal Pad 2.5x2.5mm, IPC Low Density)
pins: 1 S1 "Source Terminal. This pin can be an input or output.", 2 VSS (power) "Most Negative Power Supply Potential.", 3 GND (power) "Ground (0 V) Reference.", 4 S4 "Source Terminal. This pin can be an input or output.", 5 D4 "Drain Terminal. This pin can be an input or output.", 6 IN4 (in) "Logic Control Input.", 7 IN3 (in) "Logic Control Input.", 8 D3 "Drain Terminal. This pin can be an input or output.", 9 S3 "Source Terminal. This pin can be an input or output.", 10 NC "No Connection.", 11 VDD (power) "Most Positive Power Supply Potential.", 12 S2 "Source Terminal. This pin can be an input or output.", 13 D2 "Drain Terminal. This pin can be an input or output.", 14 IN2 (in) "Logic Control Input.", 15 IN1 (in) "Logic Control Input.", 16 D1 "Drain Terminal. This pin can be an input or output.", 17 EP (power) "Exposed Pad. Tied to substrate, VSS."

## ADG1613BRUZ
designator U?
1 Ohm Typical Ron, +/-5 V, +12 V, +5 V, and +3.3 V Quad SPST Switches, -40 to 125 degC, 16-pin SOP (RU-16), Tube; Manufacturer: Analog Devices; PartNumber: ADG1613BRUZ; # Sw Functions: 4; Id, Is (ON): 200pA, 200pA, 150pA, 100pA; Is OFF: 100pA, 100pA, 50pA, 20pA; Power Dissipation: 5.8mW; Ron (ohms): 1; DatasheetVersion: Rev. B; PackageVersion: Nov-02; PackageReference: RU-16; PackageDescription: 16-Pin Thin Shrink Small Outline Package, Body 5 x 4.4 mm, Pitch 0.65 mm; Supplier 1: Digi-Key; Supplier Part Number 1: ADG1613BRUZ-ND; Supplier 2: Farnell; Supplier Part Number 2: 2312983; Supplier 3: Newark; Supplier Part Number 3: 71P7817; Supplier 4: Mouser; Supplier Part Number 4: 584-ADG1613BRUZ; Configuration: SPST; Packing: Tube; Mounting Technology: Surface Mount; Code_JEDEC: MO-153AB; ComponentLink1Description: Manufacturer URL; ComponentLink1URL: http://www.analog.com/en/index.html; ComponentLink2Description: Datasheet; ComponentLink2URL: http://www.analog.com/static/imported-files/data_sheets/ADG1611_1612_1613.pdf; ComponentLink3Description: Package Specification; ComponentLink3URL: http:/www.analog.com/static/imported-files/packages/36244347913743854010197452789RU16.pdf
footprint ADI-RU-16_N (SOP, 16-Leads, Body 5x4.4mm, Pitch 0.65mm, IPC Medium Density)
footprint ADI-RU-16_L (SOP, 16-Leads, Body 5x4.4mm, Pitch 0.65mm, IPC High Density)
footprint ADI-RU-16_M (SOP, 16-Leads, Body 5x4.4mm, Pitch 0.65mm, IPC Low Density)
pins: 1 IN1 (in) "Logic Control Input.", 2 D1 "Drain Terminal. This pin can be an input or output.", 3 S1 "Source Terminal. This pin can be an input or output.", 4 VSS (power) "Most Negative Power Supply Potential.", 5 GND (power) "Ground (0 V) Reference.", 6 S4 "Source Terminal. This pin can be an input or output.", 7 D4 "Drain Terminal. This pin can be an input or output.", 8 IN4 (in) "Logic Control Input.", 9 IN3 (in) "Logic Control Input.", 10 D3 "Drain Terminal. This pin can be an input or output.", 11 S3 "Source Terminal. This pin can be an input or output.", 12 NC "No Connection.", 13 VDD (power) "Most Positive Power Supply Potential.", 14 S2 "Source Terminal. This pin can be an input or output.", 15 D2 "Drain Terminal. This pin can be an input or output.", 16 IN2 (in) "Logic Control Input."

## ADG1613BRUZ-REEL
designator U?
1 Ohm Typical Ron, +/-5 V, +12 V, +5 V, and +3.3 V Quad SPST Switches, -40 to 125 degC, 16-pin SOP (RU-16), Reel; Manufacturer: Analog Devices; PartNumber: ADG1613BRUZ-REEL; # Sw Functions: 4; Id, Is (ON): 200pA, 200pA, 150pA, 100pA; Is OFF: 100pA, 100pA, 50pA, 20pA; Power Dissipation: 5.8mW; Ron (ohms): 1; DatasheetVersion: Rev. B; PackageVersion: Nov-02; PackageReference: RU-16; PackageDescription: 16-Pin Thin Shrink Small Outline Package, Body 5 x 4.4 mm, Pitch 0.65 mm; Supplier 1: Digi-Key; Supplier Part Number 1: ADG1613BRUZ-REEL-ND; Supplier 2: Mouser; Supplier Part Number 2: 584-ADG1613BRUZ-R; Configuration: SPST; Packing: Reel; Mounting Technology: Surface Mount; Code_JEDEC: MO-153AB; ComponentLink1Description: Manufacturer URL; ComponentLink1URL: http://www.analog.com/en/index.html; ComponentLink2Description: Datasheet; ComponentLink2URL: http://www.analog.com/static/imported-files/data_sheets/ADG1611_1612_1613.pdf; ComponentLink3Description: Package Specification; ComponentLink3URL: http:/www.analog.com/static/imported-files/packages/36244347913743854010197452789RU16.pdf
footprint ADI-RU-16_N (SOP, 16-Leads, Body 5x4.4mm, Pitch 0.65mm, IPC Medium Density)
footprint ADI-RU-16_L (SOP, 16-Leads, Body 5x4.4mm, Pitch 0.65mm, IPC High Density)
footprint ADI-RU-16_M (SOP, 16-Leads, Body 5x4.4mm, Pitch 0.65mm, IPC Low Density)
pins: 1 IN1 (in) "Logic Control Input.", 2 D1 "Drain Terminal. This pin can be an input or output.", 3 S1 "Source Terminal. This pin can be an input or output.", 4 VSS (power) "Most Negative Power Supply Potential.", 5 GND (power) "Ground (0 V) Reference.", 6 S4 "Source Terminal. This pin can be an input or output.", 7 D4 "Drain Terminal. This pin can be an input or output.", 8 IN4 (in) "Logic Control Input.", 9 IN3 (in) "Logic Control Input.", 10 D3 "Drain Terminal. This pin can be an input or output.", 11 S3 "Source Terminal. This pin can be an input or output.", 12 NC "No Connection.", 13 VDD (power) "Most Positive Power Supply Potential.", 14 S2 "Source Terminal. This pin can be an input or output.", 15 D2 "Drain Terminal. This pin can be an input or output.", 16 IN2 (in) "Logic Control Input."

## ADG1613BRUZ-REEL7
designator U?
1 Ohm Typical Ron, +/-5 V, +12 V, +5 V, and +3.3 V Quad SPST Switches, -40 to 125 degC, 16-pin SOP (RU-16), Reel; Manufacturer: Analog Devices; PartNumber: ADG1613BRUZ-REEL7; # Sw Functions: 4; Id, Is (ON): 200pA, 200pA, 150pA, 100pA; Is OFF: 100pA, 100pA, 50pA, 20pA; Power Dissipation: 5.8mW; Ron (ohms): 1; DatasheetVersion: Rev. B; PackageVersion: Nov-02; PackageReference: RU-16; PackageDescription: 16-Pin Thin Shrink Small Outline Package, Body 5 x 4.4 mm, Pitch 0.65 mm; Supplier 1: Digi-Key; Supplier Part Number 1: ADG1613BRUZ-REEL7-ND; Supplier 2: Mouser; Supplier Part Number 2: 584-ADG1613BRUZ-R7; Configuration: SPST; Packing: Reel; Mounting Technology: Surface Mount; Code_JEDEC: MO-153AB; ComponentLink1Description: Manufacturer URL; ComponentLink1URL: http://www.analog.com/en/index.html; ComponentLink2Description: Datasheet; ComponentLink2URL: http://www.analog.com/static/imported-files/data_sheets/ADG1611_1612_1613.pdf; ComponentLink3Description: Package Specification; ComponentLink3URL: http:/www.analog.com/static/imported-files/packages/36244347913743854010197452789RU16.pdf
footprint ADI-RU-16_N (SOP, 16-Leads, Body 5x4.4mm, Pitch 0.65mm, IPC Medium Density)
footprint ADI-RU-16_L (SOP, 16-Leads, Body 5x4.4mm, Pitch 0.65mm, IPC High Density)
footprint ADI-RU-16_M (SOP, 16-Leads, Body 5x4.4mm, Pitch 0.65mm, IPC Low Density)
pins: 1 IN1 (in) "Logic Control Input.", 2 D1 "Drain Terminal. This pin can be an input or output.", 3 S1 "Source Terminal. This pin can be an input or output.", 4 VSS (power) "Most Negative Power Supply Potential.", 5 GND (power) "Ground (0 V) Reference.", 6 S4 "Source Terminal. This pin can be an input or output.", 7 D4 "Drain Terminal. This pin can be an input or output.", 8 IN4 (in) "Logic Control Input.", 9 IN3 (in) "Logic Control Input.", 10 D3 "Drain Terminal. This pin can be an input or output.", 11 S3 "Source Terminal. This pin can be an input or output.", 12 NC "No Connection.", 13 VDD (power) "Most Positive Power Supply Potential.", 14 S2 "Source Terminal. This pin can be an input or output.", 15 D2 "Drain Terminal. This pin can be an input or output.", 16 IN2 (in) "Logic Control Input."

## ADG1633BCPZ-REEL7
designator U?
4.5 Ohm Ron, Triple SPDT +/-5 V, +12 V, +5 V, and +3.3 V Switch, -40 to 125 degC, 16-pin QFN (CP-16-22), Reel; Manufacturer: Analog Devices; PartNumber: ADG1633BCPZ-REEL7; Id, Is (ON): 20pA, 20pA, 20pA, 10pA; Is OFF: 10pA, 10pA, 10pA, 10pA; Power Dissipation: 12nW; Ron (ohms): 4.5; DatasheetVersion: Rev. 0; PackageVersion: 08-16-2010-E, 09/2011; PackageReference: CP-16-22; PackageDescription: 16-Pin Lead Frame Chip Scale Package, Body 3 x 3 mm, Pitch 0.5 mm; Supplier 1: Digi-Key; Supplier Part Number 1: ADG1633BCPZ-REEL7TR-ND; Supplier 2: Digi-Key; Supplier Part Number 2: ADG1633BCPZ-REEL7CT-ND; Supplier 3: Digi-Key; Supplier Part Number 3: ADG1633BCPZ-REEL7DKR-ND; Supplier 4: Newark; Supplier Part Number 4: 67R2182; Supplier 5: Mouser; Supplier Part Number 5: 584-ADG1633BCPZ-R7; Configuration: SPDT; Packing: Reel; Mounting Technology: Surface Mount; Code_JEDEC: MO-220-WEED-6; ComponentLink1Description: Manufacturer URL; ComponentLink1URL: http://www.analog.com/en/index.html; ComponentLink2Description: Datasheet; ComponentLink2URL: http://www.analog.com/static/imported-files/data_sheets/ADG1633_1634.pdf; ComponentLink3Description: Package Specification; ComponentLink3URL: http://www.analog.com/static/imported-files/packages/PKG_PDF/LFCSP(CP)/CP-16/CP_16_22.pdf
footprint ADI-CP-16-22_N (QFN, 16-Leads, Body 3x3mm, Pitch 0.5mm, Thermal Pad 1.6x1.6mm, IPC Medium Density)
footprint ADI-CP-16-22_L (QFN, 16-Leads, Body 3x3mm, Pitch 0.5mm, Thermal Pad 1.6x1.6mm, IPC High Density)
footprint ADI-CP-16-22_M (QFN, 16-Leads, Body 3x3mm, Pitch 0.5mm, Thermal Pad 1.6x1.6mm, IPC Low Density)
pins: 1 D1 "Drain Terminal 1. Can be an input or an output.", 2 S1B "Source Terminal 1B. Can be an input or an output.", 3 S2B "Source Terminal 2B. Can be an input or an output.", 4 D2 "Drain Terminal 2. Can be an input or an output.", 5 S2A "Source Terminal 2A. Can be an input or an output.", 6 IN2 (in) "Logic Control Input 2.", 7 IN3 (in) "Logic Control Input 3.", 8 S3A "Source Terminal 3A. Can be an input or an output.", 9 D3 "Drain Terminal 3. Can be an input or an output.", 10 S3B "Source Terminal 3B. Can be an input or an output.", 11 VSS (power) "Most Negative Power Supply Potential. In single-supply applications, this pin can be connected to ground.", 12 ~{EN} (in) "Active Low Digital Input. When this pin is high, the device is disabled and all switches are off. When  this pin is low, INx logic inputs determine the on switches.", 13 IN1 (in) "Logic Control Input 1.", 14 GND (power) "Ground (0 V) Reference.", 15 VDD (power) "Most Positive Power Supply Potential.", 16 S1A "Source Terminal 1A. Can be an input or an output.", 17 EP (power) "Exposed Pad. The exposed pad is tied to the substrate, VSS"